# EAGLE library part ADP1613 (library ADP1613)
650 kHz /1.3 MHz Step-Up PWM DC-to-DC Switching Converters The ADP1612/ADP1613 are step-up dc-to-dc switching converters with an integrated power switch capable of providing an output voltage as high as 20 V. With a package height of less than 1.1 mm, the ADP1612/ADP1613 are optimal for spaceconstrained applications such as portable devices or thin film transistor (TFT) liquid crystal displays (LCDs). The ADP1612/ADP1613 operate in current mode pulse-width modulation (PWM) with up to 94% efficiency. Adjustable soft start prevents inrush currents when the part is enabled. The pin-selectable switching frequency and PWM current-mode architecture allow for excellent transient response, easy noise filtering, and the use of small, cost-saving external inductors and capacitors. Other key features include undervoltage lockout (UVLO), thermal shutdown (TSD), and logic controlled enable.
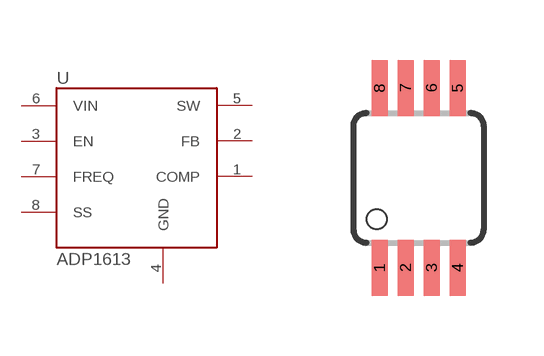
[diagram p0: symbol with the pads of MSOP08; footprint MSOP08]

Designator prefix U

## ADP1613  [MSOP08]
1  COMP
2  FB
3  EN
4  GND
5  SW
6  VIN
7  FREQ
8  SS

## Footprint MSOP08 (pad centres in mm)
8-Lead micro SO (RM-8) Source: http://www.analog.com/UploadedFiles/Data_Sheets/703465986AD8611_2_0.pdf
smd 0.4 x 1.4: 1 -0.975,-2.25; 2 -0.325,-2.25; 3 0.325,-2.25; 4 0.975,-2.25; 5 0.975,2.25; 6 0.324,2.25; 7 -0.325,2.25; 8 -0.975,2.25